# EAGLE library part DDR3-SMBUS-TAPPING (library dimm)
SMBUS tapping at 240 Pin DDR3 SDRAM Double Inline Memory Module half of JEDEC MO-269d
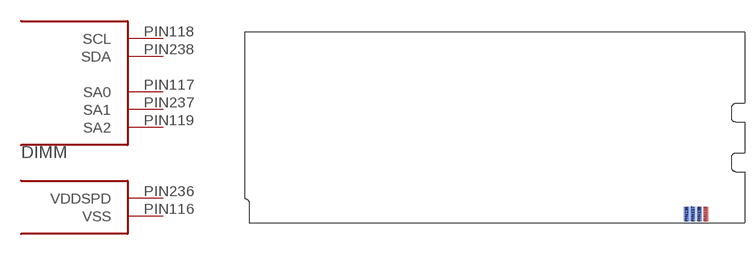
[diagram p7: symbol with the pads of HALF-240PIN-SDRAM3; footprint HALF-240PIN-SDRAM3]

Designator prefix DIMM; gates =I2C-3ADD PWR=VCC-GND

## DDR3-SMBUS-TAPPING  [HALF-240PIN-SDRAM3]
PIN116  PWR:VSS  pwr
PIN117  :SA0  in
PIN118  :SCL
PIN119  :SA2  in
PIN236  PWR:VDDSPD  pwr
PIN237  :SA1  in
PIN238  :SDA

## Footprint HALF-240PIN-SDRAM3 (pad centres in mm)
SMBUS tapping at 240 Pin DDR3 SDRAM Double Inline Memory Module half of JEDEC MO-269d
smd 0.8 x 2.3: PIN116 57.5,1.35; PIN117 58.5,1.35; PIN118 59.5,1.35; PIN119 60.5,1.35
smd 0.8 x 2.3 bottom: PIN236 57.5,1.35; PIN237 58.5,1.35; PIN238 59.5,1.35